# EAGLE library part ESP32-S3-ZERO (library ESP32-S3-Zero)
Waveshare ESP32-S3-Zero Microcontroller Board Compact ESP32-S3FH4R2 Development Board with 24 exposed GPIOs, castellated holes, 2.54mm pitch, USB-C, 4MB Flash, and 2MB PSRAM. Waveshare ESP32-S3-Zero Documentation <https://docs.waveshare.com/ESP32-S3-Zero>
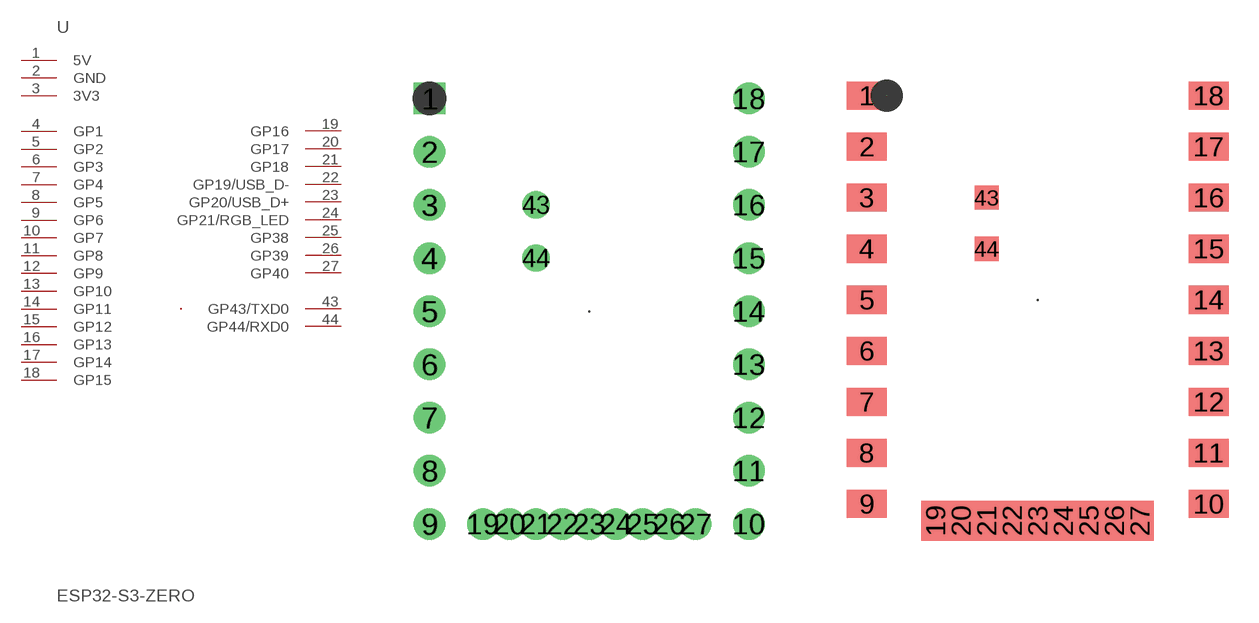
[diagram p0: symbol with the pads of ESP32-S3-ZERO-TH; footprints ESP32-S3-ZERO-TH, ESP32-S3-ZERO-SMD]

Designator prefix U

## ESP32-S3-ZERO-TH  [ESP32-S3-ZERO-TH]
1  5V  pwr
2  GND  pwr
3  3V3  pwr
4  GP1
5  GP2
6  GP3
7  GP4
8  GP5
9  GP6
10  GP7
11  GP8
12  GP9
13  GP10
14  GP11
15  GP12
16  GP13
17  GP14
18  GP15
19  GP16
20  GP17
21  GP18
22  GP19/USB_D-
23  GP20/USB_D+
24  GP21/RGB_LED
25  GP38
26  GP39
27  GP40
43  GP43/TXD0
44  GP44/RXD0

## ESP32-S3-ZERO-SMD  [ESP32-S3-ZERO-SMD]
Pads as for ESP32-S3-ZERO-TH

## Footprint ESP32-S3-ZERO-TH (pad centres in mm)
Waveshare ESP32-S3-Zero (Through-Hole Headers) Dimensions: 23.5mm x 18.0mm. Pin pitch: 2.54mm.
drill 1 square: 1 -7.62,10.16
drill 1: 2 -7.62,7.62; 3 -7.62,5.08; 4 -7.62,2.54; 5 -7.62,0; 6 -7.62,-2.54; 7 -7.62,-5.08; 8 -7.62,-7.62; 9 -7.62,-10.16; 10 7.62,-10.16; 11 7.62,-7.62; 12 7.62,-5.08; 13 7.62,-2.54; 14 7.62,0; 15 7.62,2.54; 16 7.62,5.08; 17 7.62,7.62; 18 7.62,10.16; 19 -5.08,-10.16; 20 -3.81,-10.16; 21 -2.54,-10.16; 22 -1.27,-10.16; 23 0,-10.16; 24 1.27,-10.16; 25 2.54,-10.16; 26 3.81,-10.16; 27 5.08,-10.16
drill 0.8: 43 -2.54,5.08; 44 -2.54,2.54

## Footprint ESP32-S3-ZERO-SMD (pad centres in mm)
Waveshare ESP32-S3-Zero (Castellated Surface Mount Pads) Surface mount footprint for direct PCB soldering onto carrier board.
smd 2 x 1.4: 1 -8.5,10.16; 2 -8.5,7.62; 3 -8.5,5.08; 4 -8.5,2.54; 5 -8.5,0; 6 -8.5,-2.54; 7 -8.5,-5.08; 8 -8.5,-7.62; 9 -8.5,-10.16; 10 8.5,-10.16; 11 8.5,-7.62; 12 8.5,-5.08; 13 8.5,-2.54; 14 8.5,0; 15 8.5,2.54; 16 8.5,5.08; 17 8.5,7.62; 18 8.5,10.16
smd 1.4 x 2: 19 -5.08,-11; 20 -3.81,-11; 21 -2.54,-11; 22 -1.27,-11; 23 0,-11; 24 1.27,-11; 25 2.54,-11; 26 3.81,-11; 27 5.08,-11
smd 1.2 x 1.2: 43 -2.54,5.08; 44 -2.54,2.54